# Altium footprint library TestDevicePcbLib.PcbLib: 17 footprints (part 1 of 2)
Each footprint in its own frame and in the unit in brackets; x right, y up, seen from the top. Pads: shape width x height; smd on the part's side, far side on the other; paste and mask are expansions set on the pad; w line width, h text height; cw(c..) or ccw(c..) is an arc to the next point about the centre after c.
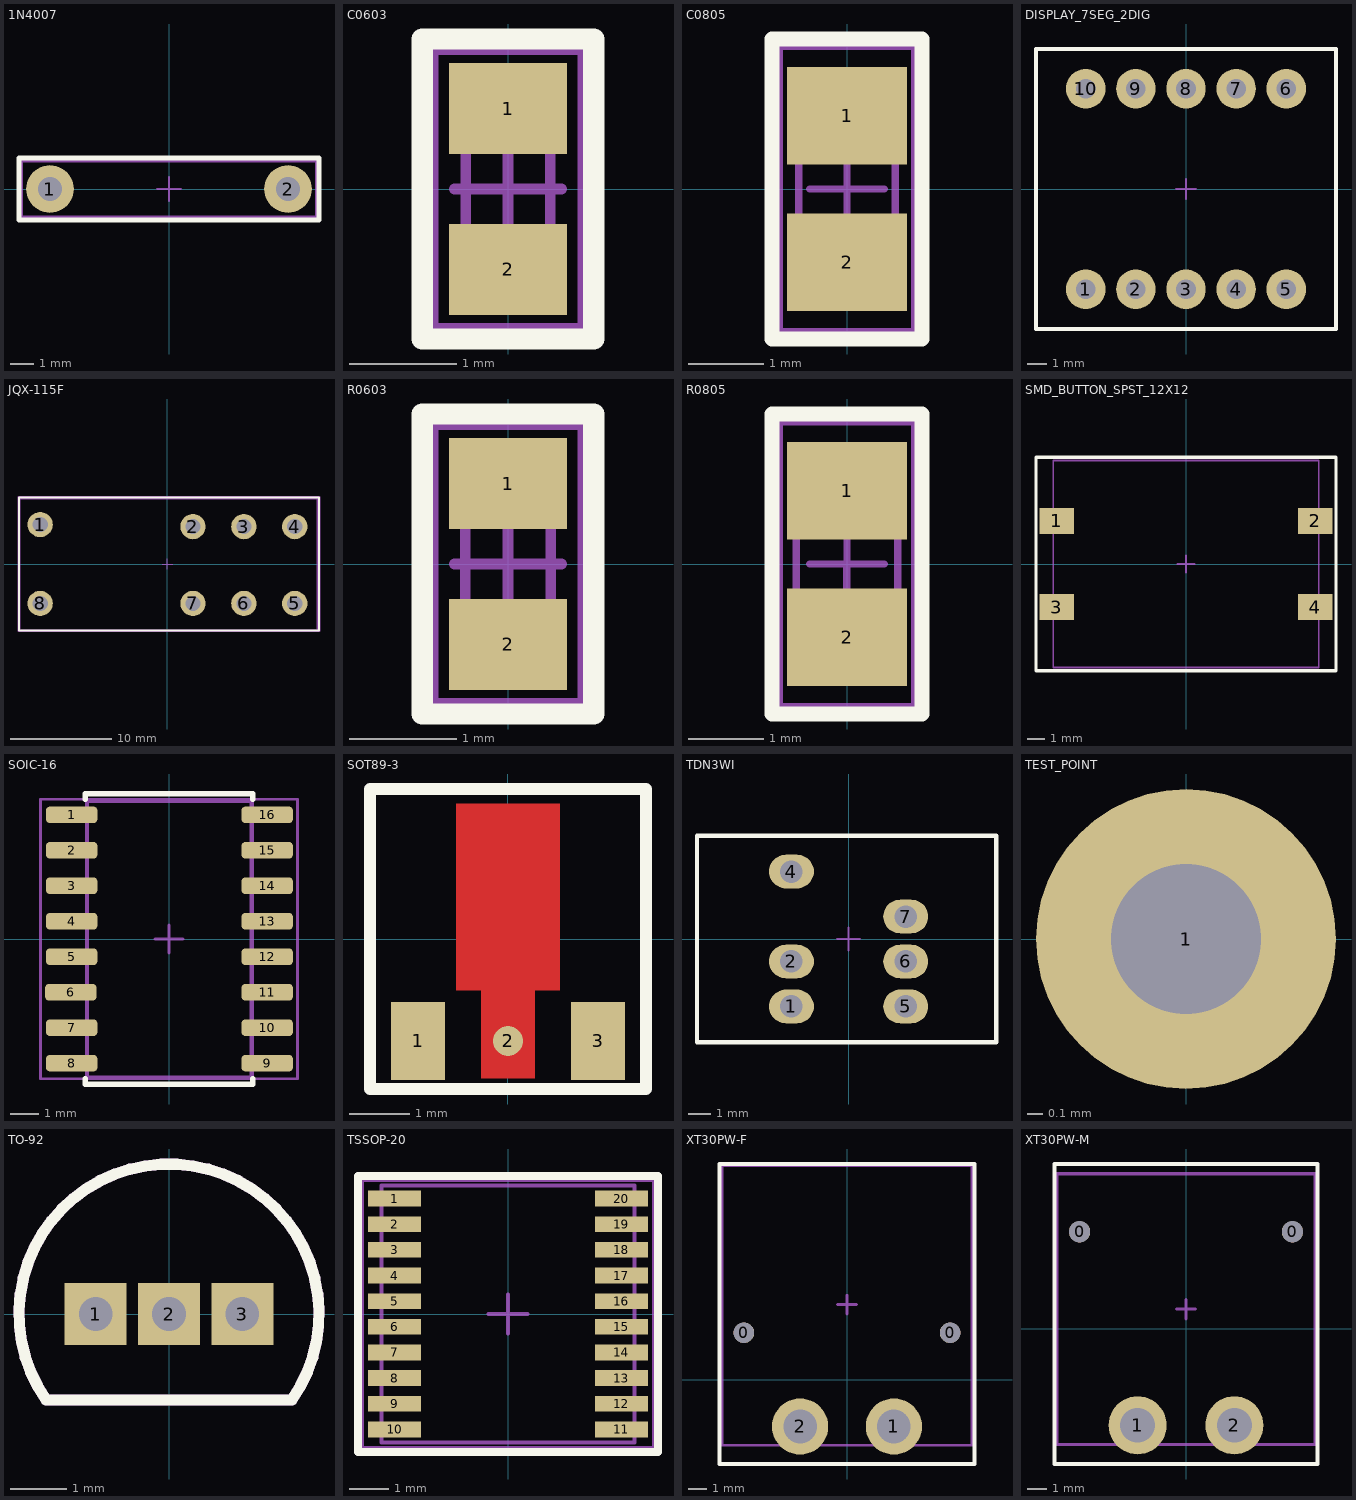
[diagram p0: the footprints below, top view; thin cyan lines are the x and y axes]

## 1N4007 [mm]
pads (2):
  round 2 hole 1: 1(-5,0) 2(5,0)
Top Overlay:
  lines w0.2: -6.3,-1.3 6.3,-1.3 6.3,1.3 -6.3,1.3 -6.3,-1.3
Top Assembly:
  lines w0.254: -6.25,-1.25 6.25,-1.25 6.25,1.25 -6.25,1.25 -6.25,-1.25
  text ".Designator" at 0.1,0.433 h1
Top Courtyard:
  lines w0.1: -0.5,0 0.5,0 ; 0,-0.5 0,0.5 ; -6.3,-1.3 6.3,-1.3 6.3,1.3 -6.3,1.3 -6.3,-1.3
3D body "DO-41.STEP": height 3, standoff -1.5, extent -5.4,-1 5.4,1.01

## C0603 [mm]
pads (2):
  rect 1.1x0.85 smd: 1(0,0.75) 2(0,-0.75)
Top Overlay:
  lines w0.2: -0.8,-1.4 0.8,-1.4 0.8,1.4 -0.8,1.4 -0.8,-1.4
Top Assembly:
  lines w0.1: -0.394,-0.81 0.394,-0.81 0.394,0.81 -0.394,0.81 -0.394,-0.81
  text ".Designator" at 0.15,0.483 h1
Top Courtyard:
  lines w0.1: -0.5,0 0.5,0 ; 0,-0.5 0,0.5 ; -0.7,-1.3 -0.7,1.3 0.7,1.3 0.7,-1.3 -0.7,-1.3
3D body "C0603.STEP": height 0.79, standoff 0, extent -0.394,-0.81 0.394,0.81

## C0805 [mm]
pads (2):
  rect 1.6x1.3 smd: 1(0,0.975) 2(0,-0.975)
Top Overlay:
  lines w0.2: -1,-2 -1,2 1,2 1,-2 -1,-2
Top Assembly:
  lines w0.1: -0.645,-1 -0.645,1 0.645,1 0.645,-1 -0.645,-1
  text ".Designator" at 0.15,0.483 h1
Top Courtyard:
  lines w0.1: -0.5,0 0.5,0 ; 0,-0.5 0,0.5 ; -0.9,-1.9 -0.9,1.9 0.9,1.9 0.9,-1.9 -0.9,-1.9
3D body "C0805.STEP": height 0.64, standoff -0.64, extent -0.645,-1 0.645,1

## DISPLAY_7SEG_2DIG [mm]
pads (10):
  round 2 hole 1: 1(-5.08,-5.08) 2(-2.54,-5.08) 3(0,-5.08) 4(2.54,-5.08) 5(5.08,-5.08) 6(5.08,5.08) 7(2.54,5.08) 8(0,5.08) 9(-2.54,5.08) 10(-5.08,5.08)
Top Overlay:
  lines w0.2: -7.6,-7.1 7.6,-7.1 7.6,7.1 -7.6,7.1 -7.6,-7.1
Top Assembly:
  lines w0.1: -7.6,-7.1 7.6,-7.1 7.6,7.1 -7.6,7.1 -7.6,-7.1
  text ".Designator" at 0.1,0.433 h1
Top Courtyard:
  lines w0.1: -0.5,0 0.5,0 ; 0,-0.5 0,0.5 ; -7.6,-7.1 7.6,-7.1 7.6,7.1 -7.6,7.1 -7.6,-7.1
3D body "LED-SEG7-0.36-2DIG.STEP": height 7.2, standoff -2, extent -7.5,-7 7.5,7

## JQX-115F [mm]
pads (8):
  round 2.5 hole 1.5: 1(-12.6,3.9) 2(2.52,3.7) 3(7.56,3.7) 4(12.6,3.7) 5(12.6,-3.9) 6(7.56,-3.9) 7(2.52,-3.9) 8(-12.6,-3.9)
Top Overlay:
  lines w0.2: -14.7,-6.6 15,-6.6 15,6.6 -14.7,6.6 -14.7,-6.6
Top Assembly:
  lines w0.254: -14.7,-6.6 -14.7,6.5 14.9,6.5 14.9,-6.6 -14.7,-6.6
  text ".Designator" at 0.1,0.433 h1
Top Courtyard:
  lines w0.1: -0.5,0 0.5,0 ; 0,-0.5 0,0.5
  lines w0.254: -14.7,-6.6 -14.7,6.6 15,6.6 15,-6.6 -14.7,-6.6
3D body "Songle_Relay_SMIH-xxVDC-SL-C.step": height 20.6, standoff -3.8, extent -14.65,-6.6 14.85,6.4

## R0603 [mm]
pads (2):
  rect 1.1x0.85 smd: 1(0,0.75) 2(0,-0.75)
Top Overlay:
  lines w0.2: -0.8,-1.4 0.8,-1.4 0.8,1.4 -0.8,1.4 -0.8,-1.4
Top Assembly:
  lines w0.1: -0.4,-0.9 0.4,-0.9 0.4,0.8 -0.4,0.8 -0.4,-0.9
  text ".Designator" at 0.15,0.433 h1
Top Courtyard:
  lines w0.1: -0.5,0 0.5,0 ; 0,-0.5 0,0.5 ; -0.7,-1.3 0.7,-1.3 0.7,1.3 -0.7,1.3 -0.7,-1.3
3D body "R0603.STEP": height 0.56, standoff 0, extent -0.4,-0.85 0.4,0.85

## R0805 [mm]
pads (2):
  rect 1.6x1.3 smd: 1(0,0.975) 2(0,-0.975)
Top Overlay:
  lines w0.2: -1,-2 -1,2 1,2 1,-2 -1,-2
Top Assembly:
  lines w0.1: -0.675,-1.125 -0.675,1.175 0.675,1.175 0.675,-1.125 -0.675,-1.125
  text ".Designator" at 0.15,0.508 h1
Top Courtyard:
  lines w0.1: -0.5,0 0.5,0 ; 0,-0.5 0,0.5 ; -0.9,-1.9 -0.9,1.9 0.9,1.9 0.9,-1.9 -0.9,-1.9
3D body "R0805.STEP": height 0.76, standoff 0, extent -0.675,-1.15 0.675,1.15

## SMD_BUTTON_SPST_12X12 [mm]
pads (4):
  rect 2x1.5 smd: 1(-7.5,2.5) 2(7.5,2.5) 3(-7.5,-2.5) 4(7.5,-2.5)
Top Overlay:
  lines w0.2: -8.7,-6.2 8.7,-6.2 8.7,6.2 -8.7,6.2 -8.7,-6.2
Top Assembly:
  lines w0.1: -7.7,-6 7.7,-6 7.7,6 -7.7,6 -7.7,-6
  text ".Designator" at 0.1,0.433 h1
Top Courtyard:
  lines w0.1: -0.5,0 0.5,0 ; 0,-0.5 0,0.5 ; -7.7,-6 -7.7,6 7.7,6 7.7,-6 -7.7,-6
3D body "PTS125SJM73SMTR-2.stp": height 7.4, standoff 0.05, extent -7.65,-6 7.65,6

## SOIC-16 [mm]
pads (16):
  rrect50% 1.85x0.6 smd: 1(-3.486,4.445) 2(-3.486,3.175) 3(-3.486,1.905) 4(-3.486,0.635) 5(-3.486,-0.635) 6(-3.514,-1.905) 7(-3.486,-3.175) 8(-3.486,-4.445) 9(3.514,-4.445) 10(3.514,-3.175) 11(3.514,-1.905) 12(3.514,-0.635) 13(3.514,0.635) 14(3.514,1.905) 15(3.514,3.175) 16(3.514,4.445)
Top Overlay:
  lines w0.2: -3,-5 -3,-5.2 3,-5.2 3,-5 ; -3,5 -3,5.2 3,5.2 3,5
Top Assembly:
  lines w0.15: -2.936,-4.955 2.964,-4.955 2.964,4.945 -2.936,4.945 -2.936,-4.955
  text ".Designator" at 0.1,0.433 h1
Top Courtyard:
  lines w0.1: -0.5,0 0.5,0 ; 0,-0.5 0,0.5 ; -4.6,-5 -4.6,5 4.6,5 4.6,-5 -4.6,-5
3D body "SOIC16.STEP": height 1.5, standoff 0, extent -2.936,-4.955 2.964,4.945

## SOT89-3 [mm]
pads (3):
  rect 0.9x1.3 smd: 1(-1.5,-1.7) 3(1.5,-1.7)
  round 0.5 smd paste-2539.97 mask+0: 2(0,-1.7)
Top Layer:
  rectangle: -0.866,-0.862 0.866,2.262
  rectangle: -0.45,-2.327 0.45,-0.853
Top Overlay:
  lines w0.2: -2.3,-2.5 2.3,-2.5 2.3,2.5 -2.3,2.5 -2.3,-2.5
Top Assembly:
  lines w0.1: -2.3,-2.5 2.3,-2.5 2.3,2.5 -2.3,2.5 -2.3,-2.5
  text ".Designator" at 0.1,-1.267 h1
Top Courtyard:
  lines w0.1: -0.5,0 0.5,0 ; 0,-0.5 0,0.5 ; -2.3,-2.5 -2.3,2.5 2.3,2.5 2.3,-2.5 -2.3,-2.5
3D body "SOT89-3.STEP": height 1.54, standoff 0, extent -2.25,-2.15 2.25,2.1

## TDN3WI [mm]
pads (6):
  oval 2x1.5 hole 1: 1(-2.54,-3) 2(-2.54,-1) 4(-2.54,3) 5(2.54,-3) 6(2.54,-1) 7(2.54,1)
Top Overlay:
  lines w0.2: -6.74,-4.6 6.56,-4.6 6.56,4.6 -6.74,4.6 -6.74,-4.6
Top Assembly:
  lines w0.11: -6.7,-4.6 -6.7,4.6 6.6,4.6 6.6,-4.6 -6.7,-4.6
  text ".Designator" at 0.15,0.483 h1
Top Courtyard:
  lines w0.1: -0.5,0 0.5,0 ; 0,-0.5 0,0.5 ; -6.74,-4.6 -6.74,4.6 6.56,4.6 6.56,-4.6 -6.74,-4.6
3D body "TDN3WI.stp": height 10.27, standoff -4.41, extent -6.661,-4.544 6.539,4.556

## TEST_POINT [mm]
pads (1):
  round 2 hole 1: 1(0,0)

## TO-92 [mm]
pads (3):
  rect 1.1x1.1 hole 0.6 square: 1(-1.3,0) 2(0,0) 3(1.3,0)
Top Overlay:
  lines w0.2: -2.179,-1.526 cw(c0,0) 2.179,-1.526 -2.179,-1.526
Top Assembly:
  lines w0.2: -2.179,-1.526 cw(c0,0) 2.179,-1.526 -2.179,-1.526
  text ".Designator" at 0.15,0.483 h1
Top Courtyard:
  lines w0.1: -0.5,0 0.5,0 ; 0,-0.5 0,0.5 ; -2.179,-1.526 cw(c0,0) 2.179,-1.526 -2.179,-1.526
3D body "TO-92A.STEP": height 6, standoff -5, extent -2.4,-1.53 2.4,2.4

## TSSOP-20 [mm]
pads (20):
  rect 1.35x0.4 smd: 1(-2.875,2.925) 2(-2.875,2.275) 3(-2.875,1.625) 4(-2.875,0.975) 5(-2.875,0.325) 6(-2.875,-0.325) 7(-2.875,-0.975) 8(-2.875,-1.625) 9(-2.875,-2.275) 10(-2.875,-2.925) 11(2.875,-2.925) 12(2.875,-2.275) 13(2.875,-1.625) 14(2.875,-0.975) 15(2.875,-0.325) 16(2.875,0.325) 17(2.875,0.975) 18(2.875,1.625) 19(2.875,2.275) 20(2.875,2.925)
Top Overlay:
  lines w0.2: -3.8,-3.5 3.8,-3.5 3.8,3.5 -3.8,3.5 -3.8,-3.5
Top Assembly:
  lines w0.1: -3.2,-3.25 -3.2,3.25 3.2,3.25 3.2,-3.25 -3.2,-3.25
  text ".Designator" at 0.15,0.483 h1
Top Courtyard:
  lines w0.1: -0.5,0 0.5,0 ; 0,-0.5 0,0.5 ; -3.7,-3.4 -3.7,3.4 3.7,3.4 3.7,-3.4 -3.7,-3.4
3D body "STM32F030F4.stp": height 1.1, standoff 0, extent -3.2,-3.25 3.2,3.25

## XT30PW-F [mm]
pads (4):
  round 1.1 / inner round 1.1 / far side round 1.3 hole 1.1: 0(-5.5,2.5) 0(5.5,2.5)
  round 3 hole 1.8: 1(2.5,-2.5) 2(-2.5,-2.5)
Top Overlay:
  lines w0.2: -6.8,-4.5 -6.8,11.5 6.8,11.5 6.8,-4.5 -6.8,-4.5
Top Assembly:
  lines w0.1: -6.65,-3.5 6.65,-3.5 6.65,11.4 -6.65,11.4 -6.65,-3.5
  text ".Designator" at 0.15,0.483 h1
Top Courtyard:
  lines w0.15: -0.5,4 0.5,4 ; 0,3.5 0,4.5 ; -6.7,-3.5 -6.7,11.5 6.7,11.5 6.7,-3.5 -6.7,-3.5
3D body "XT30PW-F.STEP": height 5, standoff -2, extent -6.65,-3.5 6.65,11.4

## XT30PW-M [mm]
pads (4):
  round 1.1 / inner round 1.1 / far side round 1.3 hole 1.1: 0(-5.5,5) 0(5.5,5)
  round 3 hole 1.8: 1(-2.5,-5) 2(2.5,-5)
Top Overlay:
  lines w0.2: -6.8,-7 -6.8,8.5 6.8,8.5 6.8,-7 -6.8,-7
Top Assembly:
  lines w0.1: -6.65,-6 6.65,-6 6.65,7.95 -6.65,7.95 -6.65,-6
  text ".Designator" at 0.15,0.483 h1
Top Courtyard:
  lines w0.15: -0.5,1 0.5,1 ; 0,0.5 0,1.5 ; -6.7,-6 -6.7,8 6.7,8 6.7,-6 -6.7,-6
3D body "XT30PW-M.STEP": height 5, standoff -2, extent -6.65,-6 6.65,7.95